# EAGLE library part BTM112-CHIP (library 1_domaci)
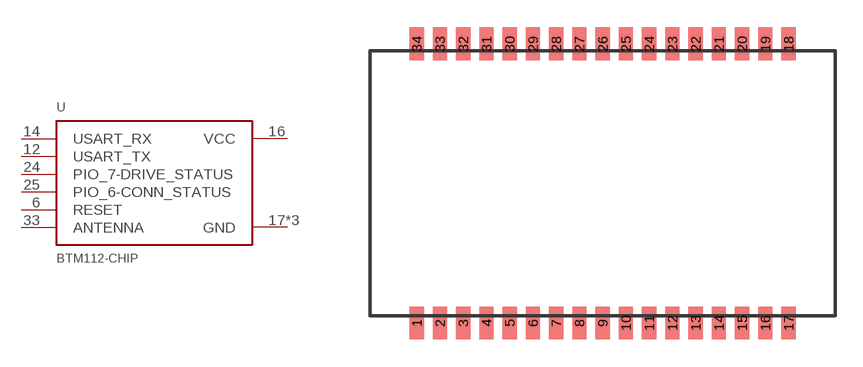
[diagram p2: symbol with the pads of BTM112-CHIP; footprint BTM112-CHIP]

Designator prefix U

## BTM112-CHIP  [BTM112-CHIP]
6  RESET
12  USART_TX
14  USART_RX
16  VCC  pwr
17  GND  pwr
24  PIO_7-DRIVE_STATUS
25  PIO_6-CONN_STATUS
32  GND  pwr
33  ANTENNA
34  GND  pwr

## Footprint BTM112-CHIP (pad centres in mm)
smd 0.787 x 1.778: 1 -10.16,-7.62; 2 -8.89,-7.62; 3 -7.62,-7.62; 4 -6.35,-7.62; 5 -5.08,-7.62; 6 -3.81,-7.62; 7 -2.54,-7.62; 8 -1.27,-7.62; 9 0,-7.62; 10 1.27,-7.62; 11 2.54,-7.62; 12 3.81,-7.62; 13 5.08,-7.62; 14 6.35,-7.62; 15 7.62,-7.62; 16 8.89,-7.62; 17 10.16,-7.62; 18 10.16,7.62; 19 8.89,7.62; 20 7.62,7.62; 21 6.35,7.62; 22 5.08,7.62; 23 3.81,7.62; 24 2.54,7.62; 25 1.27,7.62; 26 0,7.62; 27 -1.27,7.62; 28 -2.54,7.62; 29 -3.81,7.62; 30 -5.08,7.62; 31 -6.35,7.62; 32 -7.62,7.62; 33 -8.89,7.62; 34 -10.16,7.62